# Altium schematic symbol library BGA725L6E6327FTSA1.SchLib: 1 symbol
Pins are listed as number, name and electrical type; pins without a type are passive.

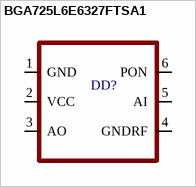
[diagram p0: symbol BGA725L6E6327FTSA1]

## BGA725L6E6327FTSA1
designator DD?
pins: 1 GND, 2 VCC, 3 AO, 4 GNDRF, 5 AI, 6 PON